# EAGLE library part 4033 (library #PaJa_30)
IO - dek. citac se 7seg. dekoderem
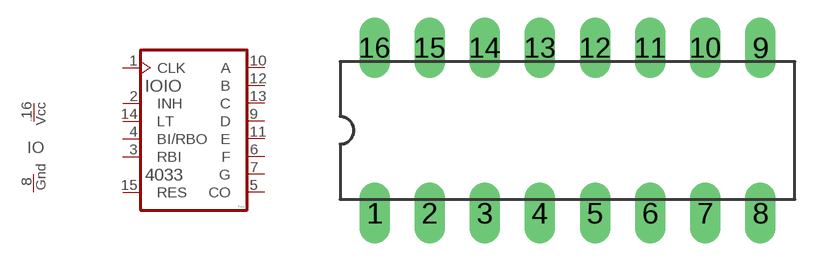
[diagram p11: symbol with the pads of DIL16; footprint DIL16]

Designator prefix IO; gates IO=IO_4033 N=POWER

## 4033  [DIL16]
1  IO:CLK  in
2  IO:INH  in
3  IO:RBI  in
4  IO:BI/RBO  in
5  IO:CO  out
6  IO:F  out
7  IO:G  out
8  N:GND  pwr
9  IO:D  out
10  IO:A  out
11  IO:E  out
12  IO:B  out
13  IO:C  out
14  IO:LT  in
15  IO:RES  in
16  N:VCC  pwr

## Footprint DIL16 (pad centres in mm)
drill 0.813 pad 1.4 long: 1 -8.89,-3.81; 2 -6.35,-3.81; 3 -3.81,-3.81; 4 -1.27,-3.81; 5 1.27,-3.81; 6 3.81,-3.81; 7 6.35,-3.81; 8 8.89,-3.81; 9 8.89,3.81; 10 6.35,3.81; 11 3.81,3.81; 12 1.27,3.81; 13 -1.27,3.81; 14 -3.81,3.81; 15 -6.35,3.81; 16 -8.89,3.81